# Altium schematic symbol library EG2208A.SchLib: 1 symbol
Pins are listed as number, name and electrical type; pins without a type are passive.

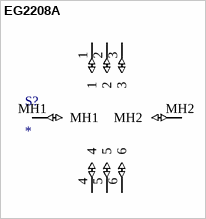
[diagram p0: symbol EG2208A]

## EG2208A
designator S?
<b>E-SWITCH - EG2208A - SWITCH, SLIDE, DPDT, 200mA, 30V, PCB</b><p> Source: <a href=""> Datasheet </a>; MF: {'manufacturer': u'E-Switch'}; Package: None; Value: *; Availability: Unavailable; Price: None; MP: EG2208A
footprint EG2208A
pins: 1 (io), 2 (io), 3 (io), 4 (io), 5 (io), 6 (io), MH1 (io), MH2 (io)